# EAGLE library part G2RL-2 (library SAE_2019)
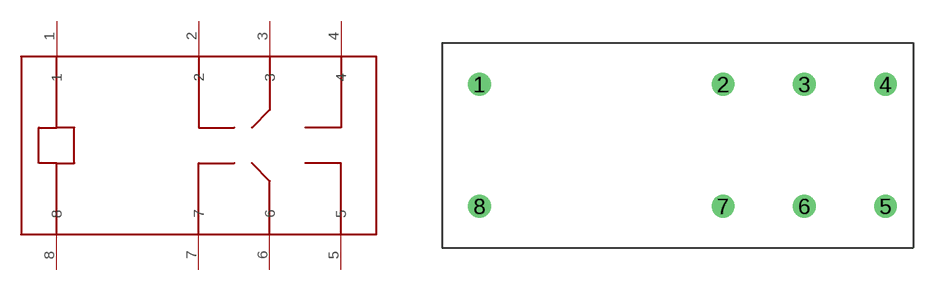
[diagram p2: symbol with the pads of G2RL-2; footprint G2RL-2]

Designator prefix -

## G2RL-2  [G2RL-2]
1  1
2  2
3  3
4  4
5  5
6  6
7  7
8  8

## Footprint G2RL-2 (pad centres in mm)
G2RL-2
drill 0.9: 1 -12.2,3.75; 2 2.8,3.75; 3 7.8,3.75; 4 12.8,3.75; 5 12.8,-3.75; 6 7.8,-3.75; 7 2.8,-3.75; 8 -12.2,-3.75